# Altium schematic symbol library cap.SchLib: 3 symbols
Pins are listed as number, name and electrical type; pins without a type are passive.

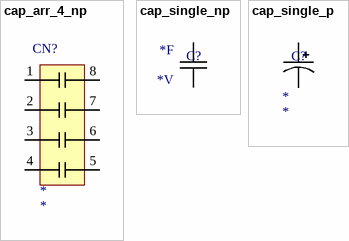
[diagram p0: symbols cap_arr_4_np to cap_single_p]

## cap_arr_4_np
designator CN?
4 element capacitor array; Voltage Rating: *; Capacitance: *
pins: 1, 2, 3, 4, 5, 6, 7, 8

## cap_single_np
designator C?  Capacitance: *F  Voltage Rating: *V  (hidden comment: *)
Tolerance: *%
footprint chip_0201
footprint chip_0402
footprint chip_0603
footprint chip_0805
footprint chip_1206
footprint chip_1210
footprint chip_1812
footprint chip_2010
footprint chip_2512
pins: 1, 2

## cap_single_p
designator C?
Tolerance: *; Voltage Rating: *; Capacitance: *
pins: 1, 2